# Altium schematic symbol library SCH - ENCODER - BOURNS EAW.SchLib: 1 symbol
Pins are listed as number, name and electrical type; pins without a type are passive.

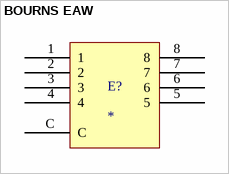
[diagram p0: symbol BOURNS EAW]

## BOURNS EAW
designator E?
pins: 1, 2, 3, 4, 5, 6, 7, 8, C